# Altium footprint library WR-MPC5.PcbLib: 52 footprints (part 3 of 4)
Each footprint in its own frame and in the unit in brackets; x right, y up, seen from the top. Pads: shape width x height; smd on the part's side, far side on the other; paste and mask are expansions set on the pad; w line width, h text height; cw(c..) or ccw(c..) is an arc to the next point about the centre after c.
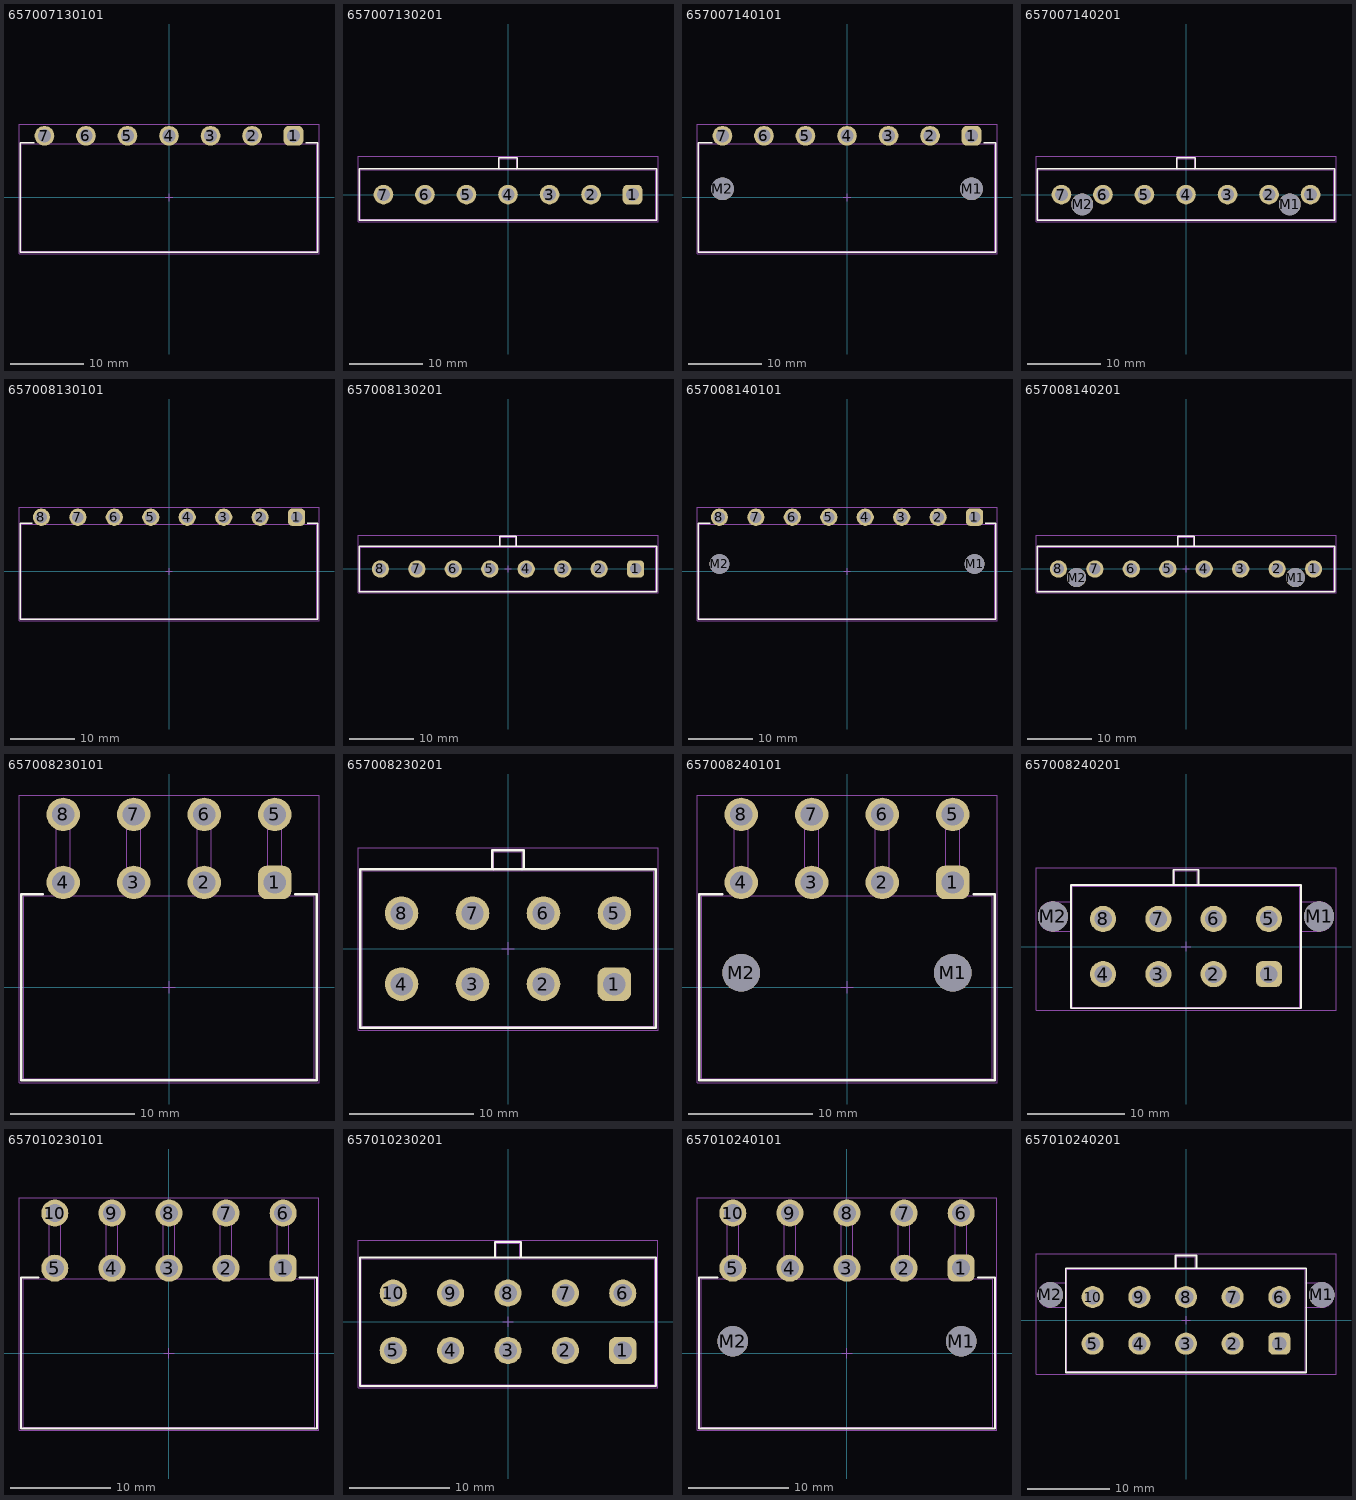
[diagram p2: the footprints below, top view; thin cyan lines are the x and y axes]

## 657007130101 [mm] "THT Single Row Male Header Right Angled, 07p"
height 7.25
pads (7):
  rrect50% 2.7x2.7 hole 1.8: 1(17.1,8.47)
  round 2.7 hole 1.8: 2(11.4,8.47) 3(5.7,8.47) 4(0,8.47) 5(-5.7,8.47) 6(-11.4,8.47) 7(-17.1,8.47)
Top Overlay:
  lines w0.2: -18.5,7.5 -20.4,7.5 -20.4,-7.5 20.4,-7.5 20.4,7.5 18.75,7.5
Top Designator:
  text ".Designator" at -7.498,-0.5 h1.5
Top Component Outline:
  lines w0.1: -17.67,7.4 -17.67,9.04 -16.53,9.04 -16.53,7.4 ; -11.97,7.4 -11.97,9.04 -10.83,9.04 -10.83,7.4 ; -6.27,7.4 -6.27,9.04 -5.13,9.04 -5.13,7.4 ; -0.57,7.4 -0.57,9.04 0.57,9.04 0.57,7.4 ; 5.13,7.4 5.13,9.04 6.27,9.04 6.27,7.4 ; 10.83,7.4 10.83,9.04 11.97,9.04 11.97,7.4 ; 16.53,7.4 16.53,9.04 17.67,9.04 17.67,7.4 ; -20.275,-7.4 -20.275,7.4 20.275,7.4 20.275,-7.4 -20.275,-7.4
Top Courtyard:
  lines w0.05: -20.6,-7.7 20.6,-7.7 20.6,10.02 -20.6,10.02 -20.6,-7.7
Top Component Center:
  lines w0.05: -0.5,0 0.5,0 ; 0,-0.5 0,0.5
3D body "657007130101.stp": height 8.85, standoff -3.43, extent -20.275,-7.4 20.275,9.04

## 657007130201 [mm] "Single Row Male Header Vertical, 07p"
height 15.3
pads (7):
  rrect50% 2.7x2.7 hole 1.8: 1(17.1,0)
  round 2.7 hole 1.8: 2(11.4,0) 3(5.7,0) 4(0,0) 5(-5.7,0) 6(-11.4,0) 7(-17.1,0)
Top Overlay:
  lines w0.2: -1.3,3.525 -1.3,5.075 1.3,5.075 1.3,3.525 ; -20.4,-3.525 -20.4,3.525 20.4,3.525 20.4,-3.525 -20.4,-3.525
Top Designator:
  text ".Designator" at -7.498,-0.5 h1.5
Top Component Outline:
  lines w0.1: -1.175,3.4 -1.175,4.95 1.175,4.95 1.175,3.4 ; -20.275,-3.4 -20.275,3.4 20.275,3.4 20.275,-3.4 -20.275,-3.4
Top Courtyard:
  lines w0.05: -20.6,-3.725 20.6,-3.725 20.6,5.275 -20.6,5.275 -20.6,-3.725
Top Component Center:
  lines w0.05: -0.5,0 0.5,0 ; 0,-0.5 0,0.5
3D body "657007130201.stp": height 15.35, standoff -3.15, extent -20.275,-3.4 20.275,4.95

## 657007140101 [mm] "THT Single Row Male Header Right Angled, 07p"
height 7.25
pads (9):
  rrect50% 2.7x2.7 hole 1.8: 1(17.1,8.47)
  round 2.7 hole 1.8: 2(11.4,8.47) 3(5.7,8.47) 4(0,8.47) 5(-5.7,8.47) 6(-11.4,8.47) 7(-17.1,8.47)
  round 3.1 hole 3.1 unplated: M1(17.1,1.17) M2(-17.1,1.17)
Top Overlay:
  lines w0.2: -18.5,7.5 -20.4,7.5 -20.4,-7.5 20.4,-7.5 20.4,7.5 18.75,7.5
Top Designator:
  text ".Designator" at -7.498,-0.5 h1.5
Top Component Outline:
  lines w0.1: -17.67,7.4 -17.67,9.04 -16.53,9.04 -16.53,7.4 ; -11.97,7.4 -11.97,9.04 -10.83,9.04 -10.83,7.4 ; -6.27,7.4 -6.27,9.04 -5.13,9.04 -5.13,7.4 ; -0.57,7.4 -0.57,9.04 0.57,9.04 0.57,7.4 ; 5.13,7.4 5.13,9.04 6.27,9.04 6.27,7.4 ; 10.83,7.4 10.83,9.04 11.97,9.04 11.97,7.4 ; 16.53,7.4 16.53,9.04 17.67,9.04 17.67,7.4 ; -20.275,-7.4 20.275,-7.4 20.275,7.4 -20.275,7.4 -20.275,-7.4
Top Courtyard:
  lines w0.05: -20.6,-7.7 -20.6,10.02 20.6,10.02 20.6,-7.7 -20.6,-7.7
Top Component Center:
  lines w0.05: -0.5,0 0.5,0 ; 0,-0.5 0,0.5
3D body "657007140101.stp": height 8.85, standoff -3.43, extent -20.275,-7.4 20.275,9.04

## 657007140201 [mm] "Single Row Male Header Vertical, 07p"
height 15.3
pads (9):
  round 2.7 hole 1.8: 1(17.1,0) 2(11.4,0) 3(5.7,0) 4(0,0) 5(-5.7,0) 6(-11.4,0) 7(-17.1,0)
  round 3 hole 3 unplated: M1(14.25,-1.34) M2(-14.25,-1.34)
Top Overlay:
  lines w0.2: -1.3,3.525 -1.3,5.075 1.3,5.075 1.3,3.525 ; -20.4,-3.525 20.4,-3.525 20.4,3.525 -20.4,3.525 -20.4,-3.525
Top Designator:
  text ".Designator" at -7.498,-0.5 h1.5
Top Component Outline:
  lines w0.1: -1.175,3.4 -1.175,4.95 1.175,4.95 1.175,3.4 ; -20.275,-3.4 20.275,-3.4 20.275,3.4 -20.275,3.4 -20.275,-3.4
Top Courtyard:
  lines w0.05: -20.6,-3.725 -20.6,5.275 20.6,5.275 20.6,-3.725 -20.6,-3.725
Top Component Center:
  lines w0.05: -0.5,0 0.5,0 ; 0,-0.5 0,0.5
3D body "657007140201.stp": height 15.35, standoff -3.15, extent -20.275,-3.4 20.275,4.95

## 657008130101 [mm] "THT Single Row Male Header Right Angled, 08p"
height 7.25
pads (8):
  rrect50% 2.7x2.7 hole 1.8: 1(19.95,8.47)
  round 2.7 hole 1.8: 2(14.25,8.47) 3(8.55,8.47) 4(2.85,8.47) 5(-2.85,8.47) 6(-8.55,8.47) 7(-14.25,8.47) 8(-19.95,8.47)
Top Overlay:
  lines w0.2: -21.35,7.5 -23.25,7.5 -23.25,-7.5 23.25,-7.5 23.25,7.5 21.6,7.5
Top Designator:
  text ".Designator" at -7.498,-0.5 h1.5
Top Component Outline:
  lines w0.1: -20.52,7.4 -20.52,9.04 -19.38,9.04 -19.38,7.4 ; -14.82,7.4 -14.82,9.04 -13.68,9.04 -13.68,7.4 ; -9.12,7.4 -9.12,9.04 -7.98,9.04 -7.98,7.4 ; -3.42,7.4 -3.42,9.04 -2.28,9.04 -2.28,7.4 ; 2.28,7.4 2.28,9.04 3.42,9.04 3.42,7.4 ; 7.98,7.4 7.98,9.04 9.12,9.04 9.12,7.4 ; 13.68,7.4 13.68,9.04 14.82,9.04 14.82,7.4 ; 19.38,7.4 19.38,9.04 20.52,9.04 20.52,7.4 ; -23.125,-7.4 -23.125,7.4 23.125,7.4 23.125,-7.4 -23.125,-7.4
Top Courtyard:
  lines w0.05: -23.45,-7.7 23.45,-7.7 23.45,10.02 -23.45,10.02 -23.45,-7.7
Top Component Center:
  lines w0.05: -0.5,0 0.5,0 ; 0,-0.5 0,0.5
3D body "657008130101.stp": height 8.85, standoff -3.43, extent -23.125,-7.4 23.125,9.04

## 657008130201 [mm] "Single Row Male Header Vertical, 08p"
height 15.3
pads (8):
  rrect50% 2.7x2.7 hole 1.8: 1(19.95,0)
  round 2.7 hole 1.8: 2(14.25,0) 3(8.55,0) 4(2.85,0) 5(-2.85,0) 6(-8.55,0) 7(-14.25,0) 8(-19.95,0)
Top Overlay:
  lines w0.2: -1.3,3.525 -1.3,5.075 1.3,5.075 1.3,3.525 ; -23.25,-3.525 23.25,-3.525 23.25,3.525 -23.25,3.525 -23.25,-3.525
Top Designator:
  text ".Designator" at -7.498,-0.5 h1.5
Top Component Outline:
  lines w0.1: -1.175,3.4 -1.175,4.95 1.175,4.95 1.175,3.4 ; -23.125,-3.4 23.125,-3.4 23.125,3.4 -23.125,3.4 -23.125,-3.4
Top Courtyard:
  lines w0.05: -23.45,-3.725 -23.45,5.275 23.45,5.275 23.45,-3.725 -23.45,-3.725
Top Component Center:
  lines w0.05: -0.5,0 0.5,0 ; 0,-0.5 0,0.5
3D body "657008130201.stp": height 15.35, standoff -3.15, extent -23.125,-3.4 23.125,4.95

## 657008140101 [mm] "THT Single Row Male Header Right Angled, 08p"
height 7.25
pads (10):
  rrect50% 2.7x2.7 hole 1.8: 1(19.95,8.47)
  round 2.7 hole 1.8: 2(14.25,8.47) 3(8.55,8.47) 4(2.85,8.47) 5(-2.85,8.47) 6(-8.55,8.47) 7(-14.25,8.47) 8(-19.95,8.47)
  round 3.1 hole 3.1 unplated: M1(19.95,1.17) M2(-19.95,1.17)
Top Overlay:
  lines w0.2: -21.35,7.5 -23.25,7.5 -23.25,-7.5 23.25,-7.5 23.25,7.5 21.6,7.5
Top Designator:
  text ".Designator" at -7.498,-0.5 h1.5
Top Component Outline:
  lines w0.1: -20.52,7.4 -20.52,9.04 -19.38,9.04 -19.38,7.4 ; -14.82,7.4 -14.82,9.04 -13.68,9.04 -13.68,7.4 ; -9.12,7.4 -9.12,9.04 -7.98,9.04 -7.98,7.4 ; -3.42,7.4 -3.42,9.04 -2.28,9.04 -2.28,7.4 ; 2.28,7.4 2.28,9.04 3.42,9.04 3.42,7.4 ; 7.98,7.4 7.98,9.04 9.12,9.04 9.12,7.4 ; 13.68,7.4 13.68,9.04 14.82,9.04 14.82,7.4 ; 19.38,7.4 19.38,9.04 20.52,9.04 20.52,7.4 ; -23.125,-7.4 -23.125,7.4 23.125,7.4 23.125,-7.4 -23.125,-7.4
Top Courtyard:
  lines w0.05: -23.45,-7.7 23.45,-7.7 23.45,10.02 -23.45,10.02 -23.45,-7.7
Top Component Center:
  lines w0.05: -0.5,0 0.5,0 ; 0,-0.5 0,0.5
3D body "657008140101.stp": height 8.85, standoff -3.43, extent -23.125,-7.4 23.125,9.04

## 657008140201 [mm] "Single Row Male Header Vertical, 08p"
height 15.3
pads (10):
  round 2.7 hole 1.8: 1(19.95,0) 2(14.25,0) 3(8.55,0) 4(2.85,0) 5(-2.85,0) 6(-8.55,0) 7(-14.25,0) 8(-19.95,0)
  round 3 hole 3 unplated: M1(17.1,-1.34) M2(-17.1,-1.34)
Top Overlay:
  lines w0.2: -1.3,3.525 -1.3,5.075 1.3,5.075 1.3,3.525 ; -23.25,-3.525 23.25,-3.525 23.25,3.525 -23.25,3.525 -23.25,-3.525
Top Designator:
  text ".Designator" at -7.498,-0.5 h1.5
Top Component Outline:
  lines w0.1: -1.175,3.4 -1.175,4.95 1.175,4.95 1.175,3.4 ; -23.125,-3.4 23.125,-3.4 23.125,3.4 -23.125,3.4 -23.125,-3.4
Top Courtyard:
  lines w0.05: -23.45,-3.725 -23.45,5.275 23.45,5.275 23.45,-3.725 -23.45,-3.725
Top Component Center:
  lines w0.05: -0.5,0 0.5,0 ; 0,-0.5 0,0.5
3D body "657008140201.stp": height 15.35, standoff -3.15, extent -23.125,-3.4 23.125,4.95

## 657008230101 [mm] "Dual Row Male Header Right Angled, GW, THT, 08p"
height 14.53
pads (8):
  rrect50% 2.7x2.7 hole 1.8: 1(8.55,8.47)
  round 2.7 hole 1.8: 2(2.85,8.47) 3(-2.85,8.47) 4(-8.55,8.47) 5(8.55,13.97) 6(2.85,13.97) 7(-2.85,13.97) 8(-8.55,13.97)
Top Overlay:
  lines w0.2: -10.2,7.525 -11.925,7.525 -11.925,-7.525 11.925,-7.525 11.925,7.525 10.2,7.525
Top Designator:
  text ".Designator" at -7.498,-0.5 h1.5
Top Component Outline:
  lines w0.1: -9.12,7.4 -9.12,14.54 -7.98,14.54 -7.98,7.4 ; -9.12,9.04 -7.98,9.04 ; -3.42,7.4 -3.42,14.54 -2.28,14.54 -2.28,7.4 ; -3.42,9.04 -2.28,9.04 ; 2.28,7.4 2.28,14.54 3.42,14.54 3.42,7.4 ; 2.28,9.04 3.42,9.04 ; 7.98,7.4 7.98,14.54 9.12,14.54 9.12,7.4 ; 7.98,9.04 9.12,9.04 ; -11.725,-7.4 11.725,-7.4 11.725,7.4 -11.725,7.4 -11.725,-7.4
Top Courtyard:
  lines w0.05: -12.125,-7.725 -12.125,15.52 12.125,15.52 12.125,-7.725 -12.125,-7.725
Top Component Center:
  lines w0.05: -0.5,0 0.5,0 ; 0,-0.5 0,0.5
3D body "657008230101.stp": height 14.69, standoff -3.44, extent -11.725,-7.4 11.725,14.54

## 657008230201 [mm] "THT Dual Row Male Header Vertical, 08p"
height 14.8
pads (8):
  rrect50% 2.7x2.7 hole 1.8: 1(8.55,-2.85)
  round 2.7 hole 1.8: 2(2.85,-2.85) 3(-2.85,-2.85) 4(-8.55,-2.85) 5(8.55,2.85) 6(2.85,2.85) 7(-2.85,2.85) 8(-8.55,2.85)
Top Overlay:
  lines w0.2: -1.275,6.365 -1.275,7.915 1.275,7.915 1.275,6.365 ; -11.85,-6.365 11.85,-6.365 11.85,6.365 -11.85,6.365 -11.85,-6.365
Top Designator:
  text ".Designator" at -7.498,-0.5 h1.5
Top Component Outline:
  lines w0.1: -1.15,6.24 -1.15,7.79 1.15,7.79 1.15,6.24 ; -11.725,-6.24 11.725,-6.24 11.725,6.24 -11.725,6.24 -11.725,-6.24
Top Courtyard:
  lines w0.05: -12.05,-6.565 -12.05,8.115 12.05,8.115 12.05,-6.565 -12.05,-6.565
Top Component Center:
  lines w0.05: -0.5,0 0.5,0 ; 0,-0.5 0,0.5
3D body "657008230201.stp": height 14.85, standoff -3.65, extent -11.725,-6.24 11.725,7.79

## 657008240101 [mm] "Dual Row Male Header Right Angled, GW, THT, 08p"
height 14.53
pads (10):
  rrect50% 2.7x2.7 hole 1.8: 1(8.55,8.47)
  round 2.7 hole 1.8: 2(2.85,8.47) 3(-2.85,8.47) 4(-8.55,8.47) 5(8.55,13.97) 6(2.85,13.97) 7(-2.85,13.97) 8(-8.55,13.97)
  round 3.05 hole 3.05 unplated: M1(8.55,1.17) M2(-8.55,1.17)
Top Overlay:
  lines w0.2: -10.1,7.525 -11.925,7.525 -11.925,-7.525 11.925,-7.525 11.925,7.525 10.25,7.525
Top Designator:
  text ".Designator" at -7.498,-0.5 h1.5
Top Component Outline:
  lines w0.1: -9.12,7.4 -9.12,14.54 -7.98,14.54 -7.98,7.4 ; -9.12,9.04 -7.98,9.04 ; -3.42,7.4 -3.42,14.54 -2.28,14.54 -2.28,7.4 ; -3.42,9.04 -2.28,9.04 ; 2.28,7.4 2.28,14.54 3.42,14.54 3.42,7.4 ; 2.28,9.04 3.42,9.04 ; 7.98,7.4 7.98,14.54 9.12,14.54 9.12,7.4 ; 7.98,9.04 9.12,9.04 ; -11.725,-7.4 11.725,-7.4 11.725,7.4 -11.725,7.4 -11.725,-7.4
Top Courtyard:
  lines w0.05: -12.125,-7.725 12.125,-7.725 12.125,15.52 -12.125,15.52 -12.125,-7.725
Top Component Center:
  lines w0.05: -0.5,0 0.5,0 ; 0,-0.5 0,0.5
3D body "657008240101.stp": height 14.69, standoff -3.44, extent -11.725,-7.4 11.725,14.54

## 657008240201 [mm] "THT Dual Row Male Header Vertical with Pegs, 08p"
height 14.8
pads (10):
  rrect50% 2.7x2.7 hole 1.8: 1(8.55,-2.85)
  round 2.7 hole 1.8: 2(2.85,-2.85) 3(-2.85,-2.85) 4(-8.55,-2.85) 5(8.55,2.85) 6(2.85,2.85) 7(-2.85,2.85) 8(-8.55,2.85)
  round 3.1 hole 3.1 unplated: M1(13.72,3.11) M2(-13.72,3.11)
Top Overlay:
  lines w0.2: -1.275,6.365 -1.275,7.915 1.275,7.915 1.275,6.365 ; -11.85,-6.365 -11.85,6.365 11.85,6.365 11.85,-6.365 -11.85,-6.365
Top Designator:
  text ".Designator" at -7.498,-0.5 h1.5
Top Component Outline:
  lines w0.1: -15.242,3 cw(c-13.715,3.09) -13.715,4.62 -11.725,4.62 ; -15.242,3.19 ccw(c-13.715,3.1) -13.715,1.57 -11.725,1.57 ; -1.15,6.24 -1.15,7.79 1.15,7.79 1.15,6.24 ; 11.725,1.57 13.715,1.57 ccw(c13.715,3.1) 15.242,3.19 ; 11.725,4.62 13.715,4.62 cw(c13.715,3.09) 15.242,3 ; -11.725,-6.24 -11.725,6.24 11.725,6.24 11.725,-6.24 -11.725,-6.24
Top Courtyard:
  lines w0.05: -15.47,-6.565 15.47,-6.565 15.47,8.115 -15.47,8.115 -15.47,-6.565
Top Component Center:
  lines w0.05: -0.5,0 0.5,0 ; 0,-0.5 0,0.5
3D body "657008240201.stp": height 14.85, standoff -3.65, extent -15.25,-6.24 15.25,7.79

## 657010230101 [mm] "Dual Row Male Header Right Angled, GW, THT, 10p"
height 14.53
pads (10):
  rrect50% 2.7x2.7 hole 1.8: 1(11.4,8.47)
  round 2.7 hole 1.8: 2(5.7,8.47) 3(0,8.47) 4(-5.7,8.47) 5(-11.4,8.47) 6(11.4,13.97) 7(5.7,13.97) 8(0,13.97) 9(-5.7,13.97) 10(-11.4,13.97)
Top Overlay:
  lines w0.2: -13.05,7.525 -14.775,7.525 -14.775,-7.525 14.775,-7.525 14.775,7.525 13.05,7.525
Top Designator:
  text ".Designator" at -7.498,-0.5 h1.5
Top Component Outline:
  lines w0.1: -11.97,7.4 -11.97,14.54 -10.83,14.54 -10.83,7.4 ; -11.97,9.04 -10.83,9.04 ; -6.27,7.4 -6.27,14.54 -5.13,14.54 -5.13,7.4 ; -6.27,9.04 -5.13,9.04 ; -0.57,7.4 -0.57,14.54 0.57,14.54 0.57,7.4 ; -0.57,9.04 0.57,9.04 ; 5.13,7.4 5.13,14.54 6.27,14.54 6.27,7.4 ; 5.13,9.04 6.27,9.04 ; 10.83,7.4 10.83,14.54 11.97,14.54 11.97,7.4 ; 10.83,9.04 11.97,9.04 ; -14.575,-7.4 14.575,-7.4 14.575,7.4 -14.575,7.4 -14.575,-7.4
Top Courtyard:
  lines w0.05: -14.975,-7.725 -14.975,15.52 14.975,15.52 14.975,-7.725 -14.975,-7.725
Top Component Center:
  lines w0.05: -0.5,0 0.5,0 ; 0,-0.5 0,0.5
3D body "657010230101.stp": height 14.69, standoff -3.44, extent -14.575,-7.4 14.575,14.54

## 657010230201 [mm] "THT Dual Row Male Header Vertical, 10p"
height 14.8
pads (10):
  rrect50% 2.7x2.7 hole 1.8: 1(11.4,-2.85)
  round 2.7 hole 1.8: 2(5.7,-2.85) 3(0,-2.85) 4(-5.7,-2.85) 5(-11.4,-2.85) 6(11.4,2.85) 7(5.7,2.85) 8(0,2.85) 9(-5.7,2.85) 10(-11.4,2.85)
Top Overlay:
  lines w0.2: -1.275,6.365 -1.275,7.915 1.275,7.915 1.275,6.365 ; -14.7,-6.365 14.7,-6.365 14.7,6.365 -14.7,6.365 -14.7,-6.365
Top Designator:
  text ".Designator" at -7.498,-0.5 h1.5
Top Component Outline:
  lines w0.1: -1.15,6.24 -1.15,7.79 1.15,7.79 1.15,6.24 ; -14.575,-6.24 14.575,-6.24 14.575,6.24 -14.575,6.24 -14.575,-6.24
Top Courtyard:
  lines w0.05: -14.9,-6.565 -14.9,8.115 14.9,8.115 14.9,-6.565 -14.9,-6.565
Top Component Center:
  lines w0.05: -0.5,0 0.5,0 ; 0,-0.5 0,0.5
3D body "657010230201.stp": height 14.85, standoff -3.65, extent -14.575,-6.24 14.575,7.79

## 657010240101 [mm] "Dual Row Male Header Right Angled, GW, THT, 10p"
height 14.53
pads (12):
  rrect50% 2.7x2.7 hole 1.8: 1(11.4,8.47)
  round 2.7 hole 1.8: 2(5.7,8.47) 3(0,8.47) 4(-5.7,8.47) 5(-11.4,8.47) 6(11.4,13.97) 7(5.7,13.97) 8(0,13.97) 9(-5.7,13.97) 10(-11.4,13.97)
  round 3.05 hole 3.05 unplated: M1(11.4,1.17) M2(-11.4,1.17)
Top Overlay:
  lines w0.2: -12.95,7.525 -14.775,7.525 -14.775,-7.525 14.775,-7.525 14.775,7.525 13.1,7.525
Top Designator:
  text ".Designator" at -7.498,-0.5 h1.5
Top Component Outline:
  lines w0.1: -11.97,7.4 -11.97,14.54 -10.83,14.54 -10.83,7.4 ; -11.97,9.04 -10.83,9.04 ; -6.27,7.4 -6.27,14.54 -5.13,14.54 -5.13,7.4 ; -6.27,9.04 -5.13,9.04 ; -0.57,7.4 -0.57,14.54 0.57,14.54 0.57,7.4 ; -0.57,9.04 0.57,9.04 ; 5.13,7.4 5.13,14.54 6.27,14.54 6.27,7.4 ; 5.13,9.04 6.27,9.04 ; 10.83,7.4 10.83,14.54 11.97,14.54 11.97,7.4 ; 10.83,9.04 11.97,9.04 ; -14.575,-7.4 14.575,-7.4 14.575,7.4 -14.575,7.4 -14.575,-7.4
Top Courtyard:
  lines w0.05: -14.975,-7.725 14.975,-7.725 14.975,15.52 -14.975,15.52 -14.975,-7.725
Top Component Center:
  lines w0.05: -0.5,0 0.5,0 ; 0,-0.5 0,0.5
3D body "657010240101.stp": height 14.69, standoff -3.44, extent -14.575,-7.4 14.575,14.54

## 657010240201 [mm] "THT Dual Row Male Header Vertical with Pegs, 10p"
height 14.8
pads (12):
  rrect50% 2.7x2.7 hole 1.8: 1(11.4,-2.85)
  round 2.7 hole 1.8: 2(5.7,-2.85) 3(0,-2.85) 4(-5.7,-2.85) 5(-11.4,-2.85) 6(11.4,2.85) 7(5.7,2.85) 8(0,2.85) 9(-5.7,2.85) 10(-11.4,2.85)
  round 3.1 hole 3.1 unplated: M1(16.57,3.11) M2(-16.57,3.11)
Top Overlay:
  lines w0.2: -1.275,6.365 -1.275,7.915 1.275,7.915 1.275,6.365 ; -14.7,-6.365 14.7,-6.365 14.7,6.365 -14.7,6.365 -14.7,-6.365
Top Designator:
  text ".Designator" at -7.498,-0.5 h1.5
Top Component Outline:
  lines w0.1: -18.092,3 cw(c-16.565,3.09) -16.565,4.62 -14.575,4.62 ; -18.092,3.19 ccw(c-16.565,3.1) -16.565,1.57 -14.575,1.57 ; -1.15,6.24 -1.15,7.79 1.15,7.79 1.15,6.24 ; 14.575,1.57 16.565,1.57 ccw(c16.565,3.1) 18.092,3.19 ; 14.575,4.62 16.565,4.62 cw(c16.565,3.09) 18.092,3 ; -14.575,-6.24 14.575,-6.24 14.575,6.24 -14.575,6.24 -14.575,-6.24
Top Courtyard:
  lines w0.05: -18.32,-6.565 -18.32,8.115 18.32,8.115 18.32,-6.565 -18.32,-6.565
Top Component Center:
  lines w0.05: -0.5,0 0.5,0 ; 0,-0.5 0,0.5
3D body "657010240201.stp": height 14.85, standoff -3.65, extent -18.1,-6.24 18.1,7.79